# Altium footprint library WCAP-HTG5.PcbLib: 5 footprints
Each footprint in its own frame and in the unit in brackets; x right, y up, seen from the top. Pads: shape width x height; smd on the part's side, far side on the other; paste and mask are expansions set on the pad; w line width, h text height; cw(c..) or ccw(c..) is an arc to the next point about the centre after c.
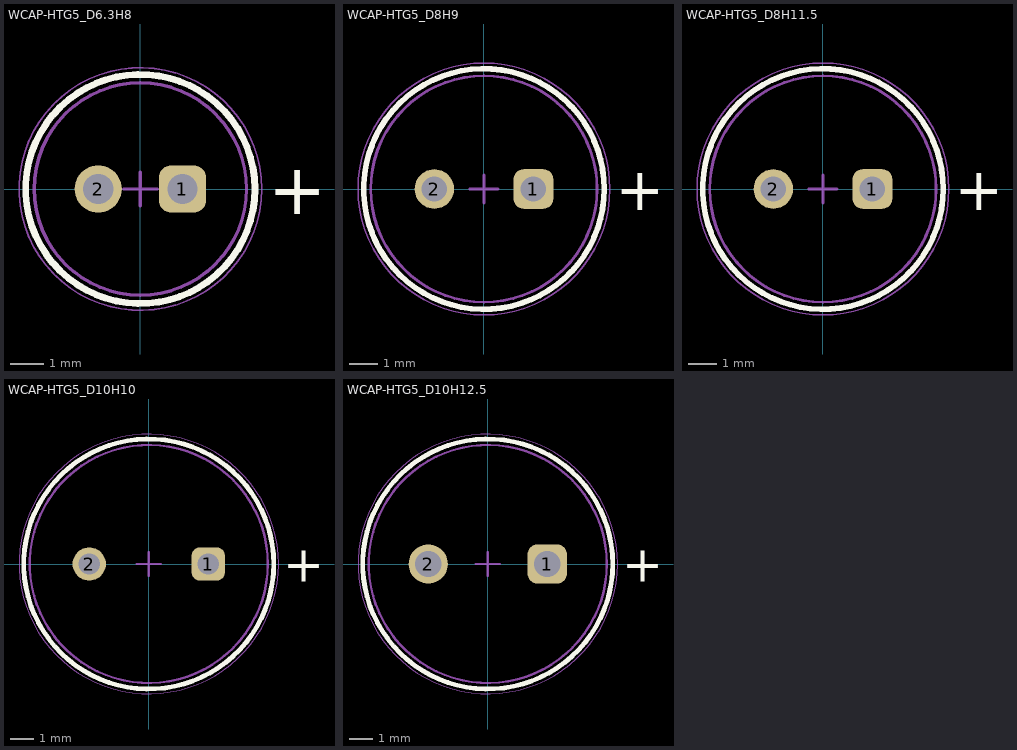
[diagram p0: the footprints below, top view; thin cyan lines are the x and y axes]

## WCAP-HTG5_D6.3H8 [mm] "Aluminum Hybrid Polymer Capacitor, diameter 6.30 mm"
height 8
pads (2):
  rrect50% 1.4x1.4 hole 0.9: 1(1.25,0)
  round 1.4 hole 0.9: 2(-1.25,0)
Top Overlay:
  circle w0.2: c0,0 r3.4
  text "+" at 3.8,-0.75 h1.5
Top Assembly:
  circle w0.1: c0,0 r3.15
Top Designator:
  text ".Designator" at -3.647,-0.357 h1
Top Courtyard:
  circle w0.05: c0,0 r3.6
Top Component Center:
  lines w0.1: -0.5,0 0.5,0 ; 0,-0.5 0,0.5
3D body "6.3x8x2.5x0.6.stp": height 8.09, standoff -19.91, extent -3.15,-3.14 3.15,3.14

## WCAP-HTG5_D8H9 [mm] "Aluminum Hybrid Polymer Capacitor, diameter 8.00 mm"
height 9
pads (2):
  rrect50% 1.4x1.4 hole 0.9: 1(1.75,0)
  round 1.4 hole 0.9: 2(-1.75,0)
Top Overlay:
  circle w0.2: c0,0 r4.25
  text "+" at 4.65,-0.75 h1.5
Top Assembly:
  circle w0.1: c0,0 r4
Top Designator:
  text ".Designator" at -3.647,-0.357 h1
Top Courtyard:
  circle w0.05: c0,0 r4.45
Top Component Center:
  lines w0.1: -0.5,0 0.5,0 ; 0,-0.5 0,0.5
3D body "8x9x3.5x0.6.stp": height 9.09, standoff -19.91, extent -4,-3.996 3.986,3.996

## WCAP-HTG5_D8H11.5 [mm] "Aluminum Hybrid Polymer Capacitor, diameter 8.00 mm"
height 11.5
pads (2):
  rrect50% 1.4x1.4 hole 0.9: 1(1.75,0)
  round 1.4 hole 0.9: 2(-1.75,0)
Top Overlay:
  circle w0.2: c0,0 r4.25
  text "+" at 4.65,-0.75 h1.5
Top Assembly:
  circle w0.1: c0,0 r4
Top Designator:
  text ".Designator" at -3.647,-0.357 h1
Top Courtyard:
  circle w0.05: c0,0 r4.45
Top Component Center:
  lines w0.1: -0.5,0 0.5,0 ; 0,-0.5 0,0.5
3D body "8x11.5x3.5x0.6.stp": height 11.59, standoff -19.91, extent -4,-4 4,4

## WCAP-HTG5_D10H10 [mm] "Aluminum Hybrid Polymer Capacitor, diameter 10.00 mm"
height 10
pads (2):
  rrect50% 1.4x1.4 hole 0.9: 1(2.5,0)
  round 1.4 hole 0.9: 2(-2.5,0)
Top Overlay:
  circle w0.2: c0,0 r5.25
  text "+" at 5.65,-0.75 h1.5
Top Assembly:
  circle w0.1: c0,0 r5
Top Designator:
  text ".Designator" at -3.647,-0.357 h1
Top Courtyard:
  circle w0.05: c0,0 r5.45
Top Component Center:
  lines w0.1: -0.5,0 0.5,0 ; 0,-0.5 0,0.5
3D body "10x10x5x0.6.stp": height 10.09, standoff -19.91, extent -5,-4.996 4.991,4.996

## WCAP-HTG5_D10H12.5 [mm] "Aluminum Hybrid Polymer Capacitor, diameter 10.00 mm"
height 12.5
pads (2):
  rrect50% 1.65x1.65 hole 1.1: 1(2.5,0)
  round 1.65 hole 1.1: 2(-2.5,0)
Top Overlay:
  circle w0.2: c0,0 r5.25
  text "+" at 5.65,-0.75 h1.5
Top Assembly:
  circle w0.1: c0,0 r5
Top Designator:
  text ".Designator" at -3.647,-0.357 h1
Top Courtyard:
  circle w0.05: c0,0 r5.45
Top Component Center:
  lines w0.1: -0.5,0 0.5,0 ; 0,-0.5 0,0.5
3D body "10x12.5x5x0.8.stp": height 12.59, standoff -19.91, extent -5,-4.996 4.984,4.996